# Altium schematic symbol library components.SchLib: 11 symbols
Pins are listed as number, name and electrical type; pins without a type are passive.

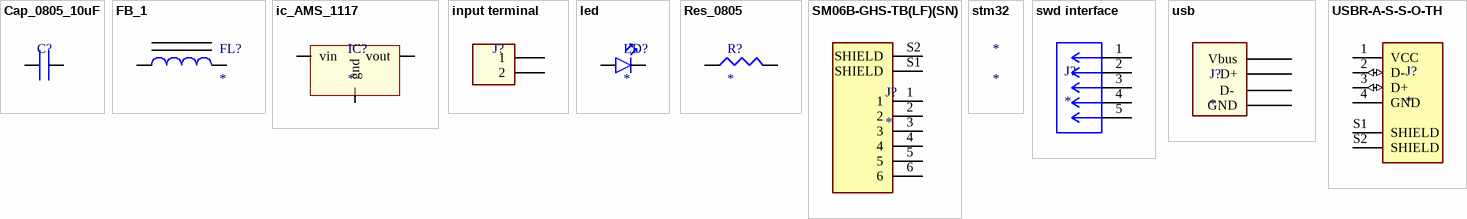
[diagram p0: symbols Cap_0805_10uF to USBR-A-S-S-O-TH]

## Cap_0805_10uF
designator C?
CAP CER 10uF 25V X5R 0805; MFR: Samsung Electro-Mechanics; MFR part #: CL21A106KAYNNNE; supllier part #: C15850; supplier: lcsc; ComponentLink1Description: data sheet; ComponentLink1URL: https://www.lcsc.com/datasheet/C15850.pdf?spm=wm.sxq.inf.ggs___wm.fly.bg.0.xh&lcsc_vid=T1lZAgUDR1VfUABTElhaXgZfQFVcUgYHQwJZX1ZTQFAxVlNeQVNfX1BQQVFWUzsOAxUeFF5JWBYZEEoKFBINSQcJGk4%3D; ComponentLink2Description: cap link; ComponentLink2URL: https://www.lcsc.com/product-detail/C15850.html?s_z=n_q_t_capacitor&spm=wm.fly.bg.0.xh___wm.ssy.tc.0.tz&lcsc_vid=T1lZAgUDR1VfUABTElhaXgZfQFVcUgYHQwJZX1ZTQFAxVlNeQVNfX1BQQVFWUzsOAxUeFF5JWBYZEEoKFBINSQcJGk4%3D
footprint Cap_0805
pins: 1, 2

## FB_1
designator FL?
FERRITE BEAD, 0805 CASE, 220OHM; Inductor Type:Ferrite Bead; Series:BLM21; Resistance:0.05ohm; DC Current Max:2000mA; Case Style:0805; Core Material:Ferrite; Temp, Op. Max:+125Â°C; Temp, Op. Min:-55Â°C; Typ Impedance @ 100MHz:220ohm; mfr: muRata; MP: BLM21PG221SN1D; Package: None; Price: None; Availability: Unavailable; Value: *; mfr part #: BLM21PG221SN1D; supplier: lcsc; supplier part #: C85840
footprint FB_BEADC2012X105N
pins: 1, 2

## ic_AMS_1117
designator IC?
1A Low Dropout (LDO) Regulator; mfr: Advanced Monolithic Systems; mfr part #: AMS1117-3.3; supplier: lcsc; supplier part #: C6186; ComponentLink1Description: datasheet; ComponentLink1URL: https://www.lcsc.com/datasheet/C6186.pdf?spm=wm.sxq.inf.ggs___wm.fly.bg.0.stp&lcsc_vid=T1lZAgUDR1VfUABTElhaXgZfQFVcUgYHQwJZX1ZTQFAxVlNeQVJeUFFeTlhYUDsOAxUeFF5JWBYZEEoKFBINSQcJGk4NBhADEA4cHktSR1hADxALGw%3D%3D
footprint ams1117 ic
pins: gnd, vin, vout "J?"

## input terminal
designator J?
TERM BLK 2POS 5mm TH; mfr: Cixi Kefa Elec; mfr part #: KF301-5.0-2P; supplier: lcsc; supplier part #: C474881; ComponentLink1Description: datasheet; ComponentLink1URL: https://www.lcsc.com/datasheet/C474881.pdf?spm=wm.sxq.inf.ggs___wm.fly.bg.4.stp&lcsc_vid=T1lZAgUDR1VfUABTElhaXgZfQFVcUgYHQwJZX1ZTQFAxVlNeQVJeX1dRT1ZcUzsOAxUeFF5JWBYZEEoKFBINSQcJGk4NBhADEA4cHktXR1JcSQwSGg0%3D
footprint OST_OSTOQ027151
pins: 1, 2

## led
designator LD?
20mA Water Clear 865mcd 590nm Yellow 2V 0805 LED Color Lighting RoHS; MFR: SunLED; MFR part #: XZMYK54W-8; supllier part #: C6759179; supplier: lcsc; ComponentLink1Description: datasheet; ComponentLink1URL: https://www.lcsc.com/datasheet/C6759179.pdf?spm=wm.sxq.inf.ggs___wm.fly.bg.0.stp&lcsc_vid=T1lZAgUDR1VfUABTElhaXgZfQFVcUgYHQwJZX1ZTQFAxVlNeQVJeUlBeQVddUDsOAxUeFF5JWBYZEEoKFBINSQcJGk4dAgUUFAk%3D
footprint LED_0805
pins: 1 6, 2 5

## Res_0805
designator R?
RES 1kΩ ±1% 125mW 0805; MFR: FOJAN; MFR part #: FRC0805F1001TS; supllier part #: C2907232; supplier: lcsc; ComponentLink1Description: res link; ComponentLink1URL: https://www.lcsc.com/product-detail/C2907232.html?s_z=n_q_p_resistance%25201k%25200805&spm=wm.ssy.bg.0.xh&lcsc_vid=T1lZAgUDR1VfUABTElhaXgZfQFVcUgYHQwJZX1ZTQFAxVlNeQVJeVF1RQlFcUTsOAxUeFF5JWBYZEEoKFBINSQcJGk4dAgUUFAk%3D; ComponentLink2Description: datad sheet; ComponentLink2URL: https://www.lcsc.com/datasheet/C2907232.pdf?spm=wm.sxq.inf.ggs___wm.ssy.bg.0.xh&lcsc_vid=T1lZAgUDR1VfUABTElhaXgZfQFVcUgYHQwJZX1ZTQFAxVlNeQVJeVF1RQlFcUTsOAxUeFF5JWBYZEEoKFBINSQcJGk4dAgUUFAk%3D
footprint RES_0805 (Chip Resistor, 2-Leads, Body 2.00x1.25mm, IPC Medium Density)
pins: 3, 4

## SM06B-GHS-TB(LF)(SN)
designator J?
Connector Header Surface Mount, Right Angle 6 position 0.049 (1.25mm); mfr: JST; mfr part #: SM06B-GHS-TB(LF)(SN); supplie part #: C133065; MF: JST Sales; MP: SM06B-GHS-TB(LF)(SN)-; SnapEDA_Link: https://www.snapeda.com/parts/SM06B-GHS-TB(LF)(SN)-/JST/view-part/?ref=snap; Package: None; Value: *; Check_prices: https://www.snapeda.com/parts/SM06B-GHS-TB(LF)(SN)-/JST/view-part/?ref=eda; supplier: lcsc
footprint JST_SM06B-GHS-TB(LF)(SN)
pins: 1, 2, 3, 4, 5, 6, S1 SHIELD, S2 SHIELD

## stm32
designator *

## swd interface
designator J?
Conn Unshrouded Header HDR 5 POS 2.54mm Solder ST Top Entry Thru-Hole KKÂ® Bag; MF: Molex; MP: 22284050; SnapEDA_Link: https://www.snapeda.com/parts/22284050/Molex/view-part/?ref=snap; Package: None; Value: *; Check_prices: https://www.snapeda.com/parts/22284050/Molex/view-part/?ref=eda
footprint CONN_SD-42375-001_M240_05_MOL
pins: 1, 2, 3, 4, 5

## usb
designator J?
CONN RCPT USB 2.0 Type-A 4POS SMD R/A; mfr: SHOU HAN; mfr part #: 10.0 QHHTZB6.3; supplier: lcsc; supplier part #: C668591; ComponentLink1Description: datasheet; ComponentLink1URL: https://www.lcsc.com/datasheet/C668591.pdf?spm=wm.sxq.inf.ggs___wm.fly.bg.0.stp&lcsc_vid=T1lZAgUDR1VfUABTElhaXgZfQFVcUgYHQwJZX1ZTQFAxVlNeQVJfV11QQlNYUDsOAxUeFF5JWBYZEEoKFBINSQcJGk4dAgUUFAk%3D
footprint USB
pins: 1 Vbus, 2 D- , 3 D+, 4 GND

## USBR-A-S-S-O-TH
designator J?
USB-A _USB TYPE-A_ USB 2.0 Receptacle Connector 4 Position Through Hole, Right Angle; MF: Samtec; MP: USBR-A-S-S-O-TH; SnapEDA_Link: https://www.snapeda.com/parts/USBR-A-S-S-O-TH/Samtec%20Inc./view-part/279681/?ref=snap; Availability: Unavailable; Price: None; Package: None; Value: *
footprint SAMTEC_USBR-A-S-S-O-TH
pins: 1 VCC (power), 2 D- (io), 3 D+ (io), 4 GND (power), S1 SHIELD, S2 SHIELD